# Altium schematic symbol library Schematics.SchLib: 15 symbols
Pins are listed as number, name and electrical type; pins without a type are passive.

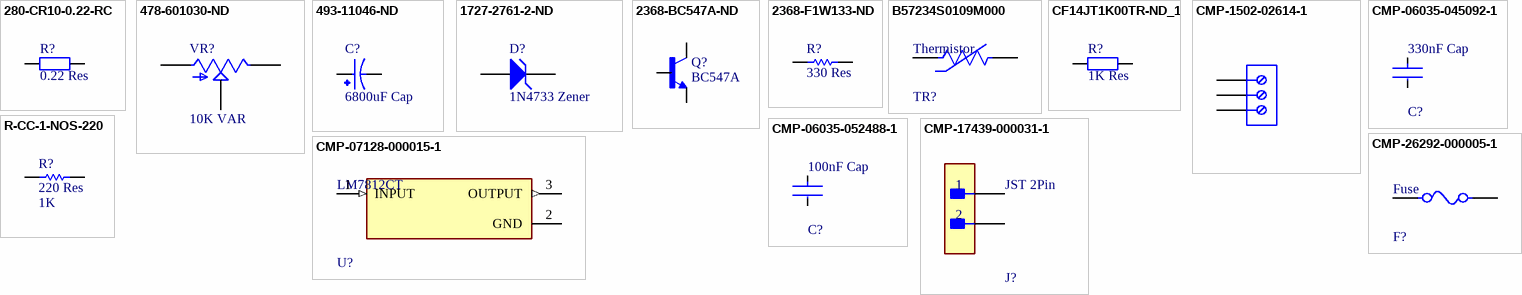
[diagram p0: symbols 280-CR10-0.22-RC to R-CC-1-NOS-220]

## 280-CR10-0.22-RC
designator R?, comment 0.22 Res
Wirewound Resistors - Through Hole 0.22ohms 5% Tol 7W; Published: 8-Jun-2000; LatestRevisionDate: 17-Jul-2002; LatestRevisionNote: Re-released for DXP Platform.; PackageReference: AXIAL-0.4; Publisher: Altium Limited; PackageDescription: Axial Device, Thru-Hole; 2 Leads; 0.4 in Pin Spacing
footprint AXIAL-0.4 (Axial Device, Thru-Hole; 2 Leads; 0.4 in Pin Spacing)
simulation model RESISTOR (Resistor)
signal-integrity model Res
footprint 0.22 Ohm Ceramic Res
pins: 1, 2

## 478-601030-ND
designator VR?, comment 10K VAR
10 kOhms 0.1W, 1/10W PC Pins Through Hole Trimmer Potentiometer Carbon 1.0 Turn Top Adjustment; MF: Bourns; MP: 3362P-1-503RLF; Package: 3362P-1 Bourns Inc.; Purchase-URL: https://pricing.snapeda.com/search/part/3362P-1-503RLF/?ref=eda; Value: *; Digi-Key_Part_Number: 118-3362P-1-503RLFCT-ND; SnapEDA_Link: https://www.snapeda.com/parts/3362P-1-503RLF/Bourns/view-part/1444210/?ref=snap; Check_prices: https://www.snapeda.com/parts/3362P-1-503RLF/Bourns/view-part/1444210/?ref=eda
footprint Var_Res_Final
pins: 1 CCW, 2 WIPER, 3 CW

## 493-11046-ND
designator C?, comment 6800uF Cap
6800 µF 35 V Aluminum Electrolytic Capacitors Radial, Can - 2000 Hrs @ 85°C; MP: EEUHD1V681B; MF: Panasonic; Package: RADIAL-2 Panasonic; Availability: In Stock; Value: *; Purchase-URL: https://pricing.snapeda.com/search/part/EEUHD1V681B/?ref=eda; Check_prices: https://www.snapeda.com/parts/EEUHD1V681B/Panasonic/view-part/5784870/?ref=eda; Price: None; SnapEDA_Link: https://www.snapeda.com/parts/EEUHD1V681B/Panasonic/view-part/5784870/?ref=snap
footprint Capacitor
pins: 1 P, 2 N

## 1727-2761-2-ND
designator D?, comment 1N4733 Zener
Zener Diode 5.1 V 1 W ±5% Through Hole DO-41; Published: 8-Jun-2000; LatestRevisionDate: 17-Jul-2002; LatestRevisionNote: Re-released for DXP Platform.; PackageReference: DIODE-0.7; Publisher: Altium Limited; PackageDescription: Diode, Thru-Hole; 2 Leads; 0.7 in Pin Spacing
footprint DIODE-0.7 (Diode, Thru-Hole; 2 Leads; 0.7 in Pin Spacing)
simulation model ZENER (Diode)
signal-integrity model D Zener
footprint 1N4733
pins: 1 A, 2 K

## 2368-BC547A-ND
designator Q?, comment BC547A
Bipolar (BJT) Transistor NPN 45 V 100 mA 300MHz 625 mW Through Hole TO-92; MF: ON Semiconductor; Value: *; MP: BC547A; Package: TO-92 NXP Semiconductors; SnapEDA_Link: https://www.snapeda.com/parts/BC547A/ON%20Semiconductor/view-part/805861/?ref=snap; Price: None; Availability: Unavailable
footprint BC547
pins: 1 C, 2 B, 3 E

## 2368-F1W133-ND
designator R?, comment 330 Res
330 Ohms ±5% 1W Through Hole Resistor Axial Fusible, Safety; Published: 8-Jun-2000; LatestRevisionDate: 17-Jul-2002; LatestRevisionNote: Re-released for DXP Platform.; PackageReference: AXIAL-0.5; Publisher: Altium Limited; PackageDescription: Axial Device, Thru-Hole; 2 Leads; 0.5 in Pin Spacing
simulation model RES (Semiconductor Resistor)
signal-integrity model Res Semi
footprint 330/470ohm
pins: 1, 2

## B57234S0109M000
designator TR?, comment Thermistor
Inrush Current Limiter 1 Ohms ±20% 11.5 A 0.591" (15.00mm); Voltage: 16V; Current Rating: 100mA; Lead Length: 39mm; Resistance: 100R; Tolerance: 20%; Package Quantity: 200; Depth: 3mm; Operating Supply Voltage: 16V; Termination: Radial; Min Operating Temperature: -10°C; Packaging: Bulk; Length: 7.5mm; Number of Pins: 2; Mount: Through Hole; Max Operating Temperature: 130°C; Case/Package: Radial; Max Supply Voltage: 16V; REACH SVHC: No SVHC; Lead Free: Lead Free; Radiation Hardening: No
footprint Thermistor
pins: 1, 2

## CF14JT1K00TR-ND_1
designator R?, comment 1K Res
1 kOhms ±5% 0.25W, 1/4W Through Hole Resistor Axial Flame Retardant Coating, Safety Carbon Film; Published: 8-Jun-2000; LatestRevisionDate: 17-Jul-2002; LatestRevisionNote: Re-released for DXP Platform.; PackageReference: AXIAL-0.4; Publisher: Altium Limited; PackageDescription: Axial Device, Thru-Hole; 2 Leads; 0.4 in Pin Spacing
simulation model RESISTOR (Resistor)
signal-integrity model Res
footprint 1K res
pins: 1, 2

## CMP-1502-02614-1
designator J?, comment 3Wires Conn
Serie 2365 - 5.08 mm Horizontal Cable Entry Modular with Rising Cage Clamp WR-TBL, 3 pin; Manufacturer: Wurth Elektronik; Part Number: 691236510003; Pin Number: 3; Pitch: 5.08mm; Mounting Technology: THT; Datasheet URL: http://katalog.we-online.de/em/datasheet/691236510003.pdf; Publisher: WurthElektronik; Operating Temperature: -30to120degC; Package Reference: 691236510003; Manufacturer URL: http://www.we-online.de; Packaging: Box
footprint Connector
pins: 1, 2, 3

## CMP-06035-045092-1
designator C?, comment 330nF Cap
Cap Ceramic Monolithic 330nF 100V 10% Thru-Hole Bulk; Dielectric: X7R; Lead/Base Style: Formed Leads; Lead Diameter: 0.5mm; Height: 3.5mm; Height - Seated (Max): 0.138inch; Mount: Through Hole; Voltage Rating (DC): 100V; Resistor Type: Ceramic; Length: 0.157inch; Width: 2.5mm; Max Operating Temperature: 125°C; Package Quantity: 500; Min Operating Temperature: -55°C; Termination: Radial; Lead Pitch: 0.197inch; Capacitance: 330nF; Voltage Rating: 100V; Case/Package: Radial; Packaging: Bulk; Tolerance: 10%; Ratings: AEC-Q200
footprint Cpacitor 0.33uf
pins: 1, 2

## CMP-06035-052488-1
designator C?, comment 100nF Cap
Cap Ceramic 100nF 100V X7R ±10% Radial 2.5mm +125°C Automotive Ammo Pack; Lead/Base Style: Straight; Lead Diameter: 0.5mm; Termination: Radial; Height: 3.5mm; Capacitance: 100nF; Ratings: AEC-Q200; Max Operating Temperature: 125°C; Min Operating Temperature: -55°C; Case/Package: Radial; Package Quantity: 2000; Resistor Type: Ceramic; Mount: Through Hole; Dielectric: X7R; Lead Free: Lead Free; Height - Seated (Max): 0.138inch; Width: 0.098inch; Tolerance: 10%; Packaging: Tape and Reel; Lead Pitch: 0.098inch; Length: 0.157inch; Voltage Rating: 100V; Voltage Rating (DC): 100V
footprint capacitor 0.1uf
pins: 1, 2

## CMP-07128-000015-1
designator U?, comment LM7812CT
IC REG LINEAR 12V 1A TO220-3; Obsolete Part: true; Manufacturer: ON Semiconductor; Nominal Supply Current: 5.1mA; Output Type: Fixed; Dropout Voltage: 2V; Max Supply Voltage: 35V; Accuracy Percentage: 4%; Standoff Height: 2.7mm; Number Of Outputs: 1; Octopart: https://octopart.com/lm7812ct-on+semiconductor-14383031; Output Current: 1A; ComponentLink2Description: Datasheet; Device Class L1: Integrated Circuits (ICs); Device Class L2: Power Management ICs; Temperature Range Low: -40°C; Category: IC; Package: TO220B03; Device Class L3: Voltage Regulators - Linear; RoHS: TRUE; Digikey Description: IC REG LINEAR 12V 1A TO220-3; Ipc Land Pattern Name: TO-220; Output Voltage: 12V; Temperature: -40°C to +125°C; Automotive: No; Temperature Range High: +125°C; ComponentLink2URL: https://www.mouser.in/datasheet/2/308/LM7812-1125088.pdf; Manufacturer Part Number: LM7812CT; Height: 20.4mm; Lead Free: Yes
footprint Fan_Regulator
pins: 1 INPUT (in), 2 GND (power), 3 OUTPUT (out)

## CMP-17439-000031-1
designator J?, comment JST 2Pin
CONN HEADER VERT 2POS 2.54MM; Connector Type: Male Pin; Pitch: 0.156inch; Number of Positions: 2; Packaging: Bulk; Package Quantity: 250; Termination: Solder; Lead Free: Lead Free; Contact Plating: Tin; Contact Type: Male Pin; Color: Natural; Fastening Type: Ramp; Number of Rows: 1; Mount: Through Hole; Series: VH
footprint JST 2 Pin
pins: 1, 2

## CMP-26292-000005-1
designator F?, comment Fuse
FUSE BLOK CARTRIDGE 600V 12A PCB; Manufacturer: Schurter; Manufacturer Part Number: 0031.8231; Voltage Rating Ac: 500V; Number Of Fuses: 1; Fuse Current: 16A; Standoff Height: 0.7mm; Conn Orientation: Horizontal; ComponentLink2URL: https://www.schurter.com/en/datasheet/typ_OGD.pdf; Voltage Rating Dc: 600V; Package: 0; Device Class L3: unset; Digikey Description: FUSE BLOK CARTRIDGE 600V 16A PCB; Mouser Description: Fuse Holder OGD FUSEHOLDER 5X20/6.3X32; Category: Fuse; Device Class L2: Fuse Holders; Height: 12.7mm; ComponentLink2Description: Datasheet; Ambient Temperature Range Low: -40°C; Ambient Temperature Range High: +85°C; Octopart: https://octopart.com/0031.8231-schurter-8659; Automotive: No; RoHS: TRUE; Lead Free: Yes; Device Class L1: Circuit Protection
footprint Fuse
pins: 1, 2

## R-CC-1-NOS-220
designator R?, comment 220 Res  value 1K
220 Ohms - 1W Through Hole Resistor Axial - Carbon Composition; Published: 8-Jun-2000; LatestRevisionDate: 17-Jul-2002; LatestRevisionNote: Re-released for DXP Platform.; PackageReference: AXIAL-0.5; Publisher: Altium Limited; PackageDescription: Axial Device, Thru-Hole; 2 Leads; 0.5 in Pin Spacing
simulation model RES (Semiconductor Resistor)
signal-integrity model Res Semi
footprint 330/470ohm
pins: 1, 2